# Altium footprint library HDR2X6.PcbLib: 1 footprints
Each footprint in its own frame and in the unit in brackets; x right, y up, seen from the top. Pads: shape width x height; smd on the part's side, far side on the other; paste and mask are expansions set on the pad; w line width, h text height; cw(c..) or ccw(c..) is an arc to the next point about the centre after c.
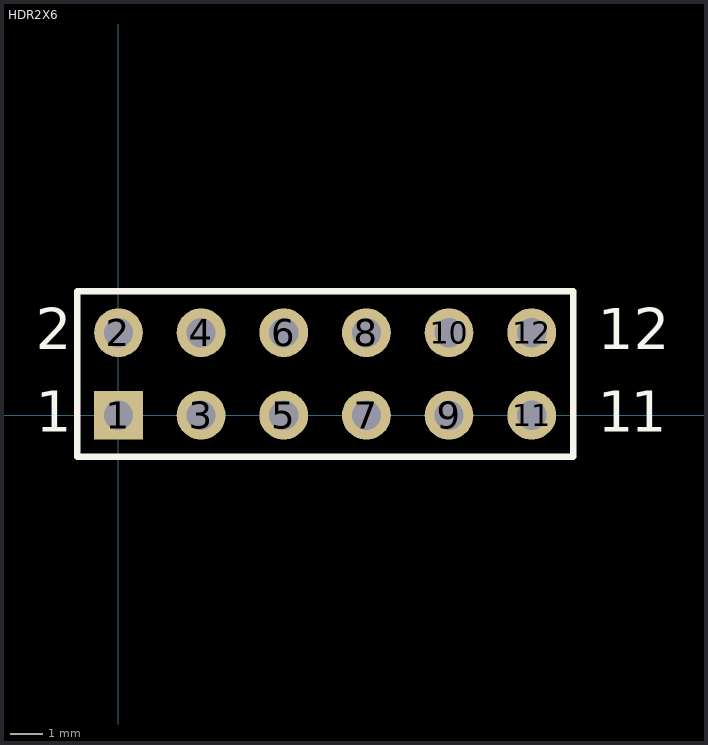
[diagram p0: the footprint, top view; thin cyan lines are the x and y axes]

## HDR2X6 [mm] "Connector; Header; 6x2 Position"
pads (12):
  rect 1.5x1.5 hole 0.9: 1(0,0)
  round 1.5 hole 0.9: 2(0,2.54) 3(2.54,0) 4(2.54,2.54) 5(5.08,0) 6(5.08,2.54) 7(7.62,0) 8(7.62,2.54) 9(10.16,0) 10(10.16,2.54) 11(12.7,0) 12(12.7,2.54)
Top Overlay:
  lines w0.2: -1.27,-1.27 -1.27,3.81 13.97,3.81 13.97,-1.27 -1.27,-1.27
  text "2" at -2.54,2.032 h1.27
  text "1" at -2.54,-0.508 h1.27
  text "1" at 14.732,-0.508 h1.27
  text "1" at 15.748,-0.508 h1.27
  text "12" at 14.732,2.032 h1.27